# EAGLE library part MAX5424 (library chips_old)
Variable POT 256 Tap
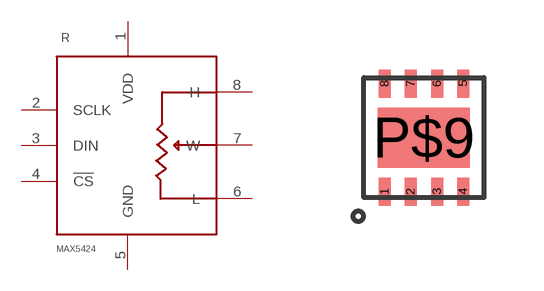
[diagram p44: symbol with the pads of TDFN-8/3MM; footprint TDFN-8/3MM]

Designator prefix R

## MAX5424  [TDFN-8/3MM]
1  VDD
2  SCLK
3  DIN
4  !CS
5  GND
6  L
7  W
8  H

## Footprint TDFN-8/3MM (pad centres in mm)
smd 0.3 x 0.7: 1 -0.98,-1.35; 2 -0.33,-1.35; 3 0.33,-1.35; 4 0.98,-1.35; 5 0.98,1.35; 6 0.33,1.35; 7 -0.33,1.35; 8 -0.98,1.35
smd 2.3 x 1.5: P$9 0,0